# Altium footprint library NeoPixel8mm.PcbLib: 1 footprints
Each footprint in its own frame and in the unit in brackets; x right, y up, seen from the top. Pads: shape width x height; smd on the part's side, far side on the other; paste and mask are expansions set on the pad; w line width, h text height; cw(c..) or ccw(c..) is an arc to the next point about the centre after c.
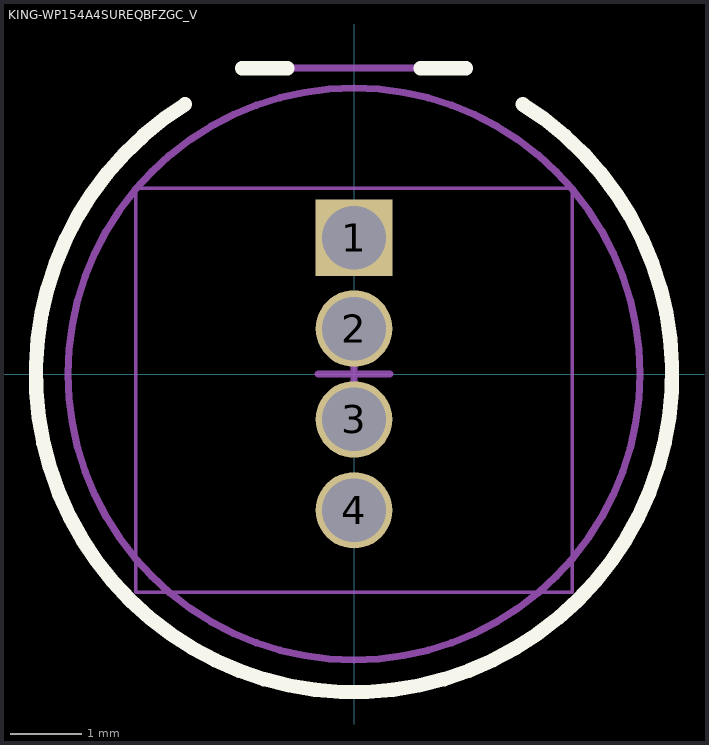
[diagram p0: the footprint, top view; thin cyan lines are the x and y axes]

## KING-WP154A4SUREQBFZGC_V [mm] "THD, 4-Leads, Dia 5.9mm, Pitch 1.27mm"
pads (4):
  rect 1.07x1.07 hole 0.889 paste-2539.97: 1(0,1.905)
  round 1.07 hole 0.889 paste-2539.97: 2(0,0.635) 3(0,-0.635) 4(0,-1.905)
Top Overlay:
  lines w0.2: -2.362,3.771 ccw(c0,0) 2.362,3.771 ; -1.566,4.278 -0.93,4.278 ; 0.93,4.278 1.566,4.278
Mechanical 13:
  circle w0.1: c0,0 r4
  lines w0.1: -2.362,3.771 ccw(c0,0) 2.362,3.771 ; -1.566,4.278 1.566,4.278
Mechanical 15:
  lines w0.05: -3.05,-3.05 -3.05,2.6 3.05,2.6 3.05,-3.05 -3.05,-3.05
  lines w0.1: -0.5,0 0.5,0 ; 0,-0.5 0,0.5